# EAGLE library part TC78H653FTG (library SobieskiSat2)
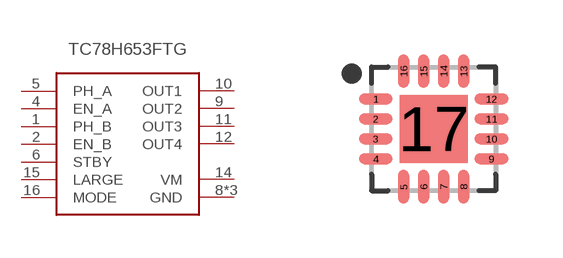
[diagram p21: symbol with the pads of QFN50P300X300X90-17T170N; footprint QFN50P300X300X90-17T170N]

Designator prefix -

## TC78H653FTG  [QFN50P300X300X90-17T170N]
1  PH_B
2  EN_B
4  EN_A
5  PH_A
6  STBY
8  GND
9  OUT2
10  OUT1
11  OUT3
12  OUT4
13  GND
14  VM
15  LARGE
16  MODE
17  GND

## Footprint QFN50P300X300X90-17T170N (pad centres in mm)
16-QFN, 0.50 mm pitch, 3.00 X 3.00 X 0.90 mm body, 1.70 X 1.70 mm thermal pad 16-pin QFN package with 0.50 mm pitch with body size 3.00 X 3.00 X 0.90 mm and thermal pad size 1.70 X 1.70 mm
smd 0.838 x 0.27: 1 -1.446,0.75; 2 -1.446,0.25; 3 -1.446,-0.25; 4 -1.446,-0.75; 9 1.446,-0.75; 10 1.446,-0.25; 11 1.446,0.25; 12 1.446,0.75
smd 0.27 x 0.838: 5 -0.75,-1.446; 6 -0.25,-1.446; 7 0.25,-1.446; 8 0.75,-1.446; 13 0.75,1.446; 14 0.25,1.446; 15 -0.25,1.446; 16 -0.75,1.446
smd 1.7 x 1.7: 17 0,0